# EAGLE library part AE-ESP-WROOM-02 (library ae-esp-wroom)
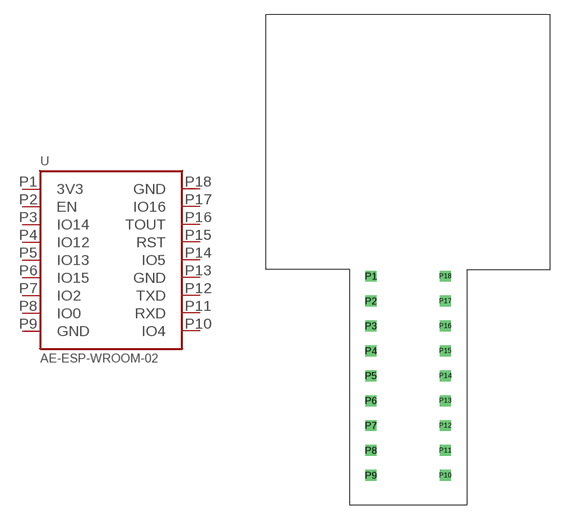
[diagram p0: symbol with the pads of AE-ESP-WROOM-02; footprint AE-ESP-WROOM-02]

Designator prefix U

## AE-ESP-WROOM-02  [AE-ESP-WROOM-02]
P1  3V3
P2  EN
P3  IO14
P4  IO12
P5  IO13
P6  IO15
P7  IO2
P8  IO0
P9  GND
P10  IO4
P11  RXD
P12  TXD
P13  GND
P14  IO5
P15  RST
P16  TOUT
P17  IO16
P18  GND

## Footprint AE-ESP-WROOM-02 (pad centres in mm)
drill 0.6 pad 0.9 square: P1 -3.81,20.32; P2 -3.81,17.78; P3 -3.81,15.24; P4 -3.81,12.7; P5 -3.81,10.16; P6 -3.81,7.62; P7 -3.81,5.08; P8 -3.81,2.54; P9 -3.81,0; P10 3.81,0; P11 3.81,2.54; P12 3.81,5.08; P13 3.81,7.62; P14 3.81,10.16; P15 3.81,12.7; P16 3.81,15.24; P17 3.81,17.78; P18 3.81,20.32